# Altium footprint library FA-20H 40.0000MF10Z-K3.PcbLib: 1 footprints
Each footprint in its own frame and in the unit in brackets; x right, y up, seen from the top. Pads: shape width x height; smd on the part's side, far side on the other; paste and mask are expansions set on the pad; w line width, h text height; cw(c..) or ccw(c..) is an arc to the next point about the centre after c.
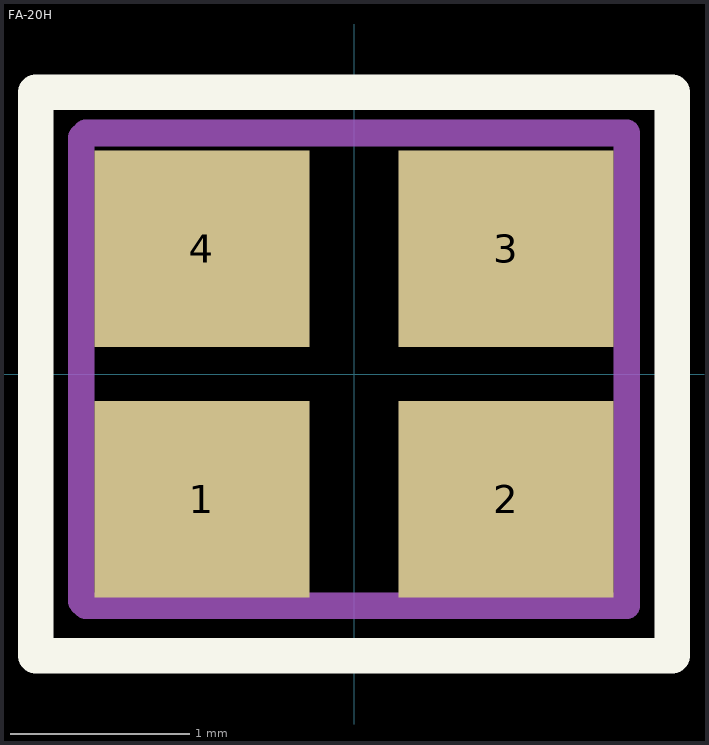
[diagram p0: the footprint, top view; thin cyan lines are the x and y axes]

## FA-20H [mm]
pads (4):
  rect 1.2x1.1 smd: 1(-0.85,-0.7) 2(0.85,-0.7) 3(0.85,0.7) 4(-0.85,0.7)
Top Overlay:
  lines w0.2: -1.778,-1.575 -1.778,1.575 1.778,1.575 1.778,-1.575 -1.778,-1.575
Mechanical 29:
  lines w0.15: -1.524,-1.27 -1.499,-1.295 1.524,-1.295 1.524,1.346 -1.499,1.346 -1.524,1.321 -1.524,-1.27
  lines w0.254: -1.151,-0.968 ccw(c-1.219,-0.991) -1.147,-0.991
  text ".Designator" at -0.406,-0.254 h1.02
3D body "User Library-Crystal NDK NX2520SA series.STEP": height 0.55, standoff 0, extent -1.3,-1.05 1.3,1.05